# Altium schematic symbol library RC_ControllerV.2.SchLib: 52 symbols (part 2 of 2)
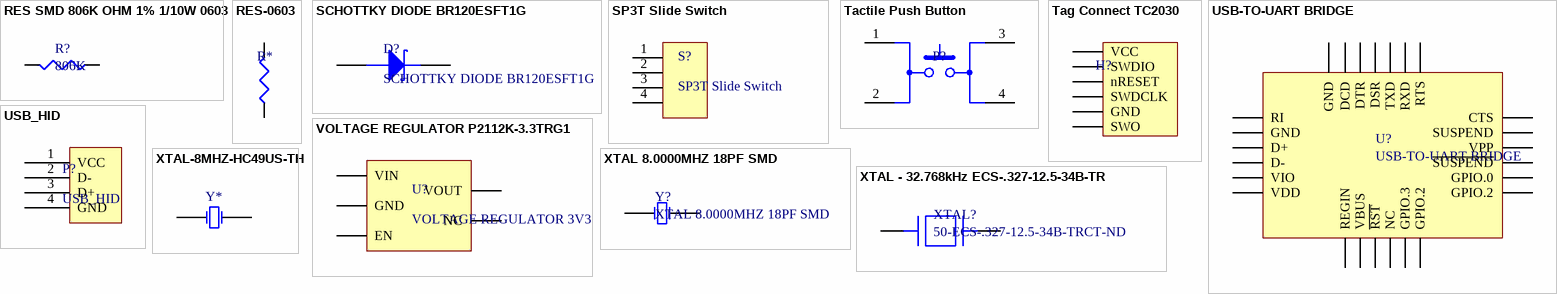
[diagram p2: symbols RES SMD 806K OHM 1% 1/10W 0603 to XTAL-8MHZ-HC49US-TH]

## VOLTAGE REGULATOR P2112K-3.3TRG1
designator U?, comment VOLTAGE REGULATOR 3V3
IC REG LINEAR 3.3V 600MA SOT25; Manufacturer: Diodes Incorporated; Manufacturer Part Number: AP2112K-3.3TRG1; Output Configuration: Positive; Output Type: Fixed; Voltage - Input (Max): 6V; Voltage Dropout (Max): 0.4V @ 600mA; PSRR: 65sB (100Hz ~ 1KHz); Control Features: Enable; Protection Features: Over Current, Over Temperature; Supplier 1: Digi-Key; RoHS: RoHS Compliant; Category: Integrated Circuits (ICs); Stock 1: 185533; Pricing 1: 1=0.48, 10=0.362, 100=0.2255, 500=0.15426, 1000=0.11866 (USD); Packaging: Cut Tape (CT); Part Status: Active; Voltage - Output (Min/Fixed): 3.3V; Voltage - Output (Max): -; Current - Output: 600mA; Operating Temperature: -40°C ~ 85°C; Mounting Type: Surface Mount; Package / Case: SC-74A, SOT-753; Supplier Device Package: SOT-25; ComponentLink1URL: https://www.diodes.com/assets/Datasheets/AP2112.pdf; ComponentLink1Description: https://www.diodes.com/assets/Datasheets/AP2112.pdf; Supplier Part Number 1: AP2112K-3.3TRG1DICT-ND
footprint Regulator_SOT-25
pins: 1 VIN, 2 GND, 3 EN, 4 NC, 5 VOUT

## XTAL 8.0000MHZ 18PF SMD
designator Y?
CRYSTAL 8.0000MHZ 18PF SMD; Manufacturer: Abracon LLC; Manufacturer Part Number: ABLS-8.000MHZ-B4-T; Frequency Stability: ±50ppm; Frequency Tolerance: ±30ppm; Operating Mode: Fundamental; Supplier 1: Digi-Key; RoHS: RoHS Compliant; Category: Crystals, Oscillators, Resonators; Stock 1: 24400; Pricing 1: 1=0.29, 10=0.238, 50=0.2138, 100=0.19, 500=0.1805 (USD); Packaging: Cut Tape (CT); Part Status: Active; Type: MHz Crystal; Load Capacitance: 18pF; Operating Temperature: -20°C ~ 70°C; Ratings: -; Mounting Type: Surface Mount; Package / Case: HC-49/US; Size / Dimension: 0.449" L x 0.185" W (11.40mm x 4.70mm); Height - Seated (Max): 0.165" (4.20mm); ComponentLink1URL: https://abracon.com/Resonators/abls.pdf; ComponentLink1Description: https://abracon.com/Resonators/abls.pdf; Supplier Part Number 1: 535-10212-1-ND
footprint XTAL 8.0000MHZ 18PF SMD
pins: 1 OSC1, 2 OSC2

## XTAL - 32.768kHz ECS-.327-12.5-34B-TR
designator XTAL?, comment 50-ECS-.327-12.5-34B-TRCT-ND
CRYSTAL 32.7680KHZ 12.5PF SMD; Manufacturer: ECS Inc.; Frequency Tolerance: ±20ppm; Operating Mode: Fundamental; Supplier 1: Digi-Key; Manufacturer Part Number: ECS-.327-12.5-34B-TR; RoHS: RoHS Compliant; Category: Crystals, Oscillators, Resonators; Stock 1: 258451; Pricing 1: 1=0.54, 10=0.448, 50=0.4034, 100=0.3586, 500=0.34068, 1000=0.28688 (USD); Packaging: Cut Tape (CT); Part Status: Active; Type: kHz Crystal (Tuning Fork); Frequency Stability: -; Load Capacitance: 12.5pF; Operating Temperature: -40°C ~ 85°C; Ratings: -; Mounting Type: Surface Mount; Package / Case: 2-SMD, No Lead; Size / Dimension: 0.126" L x 0.059" W (3.20mm x 1.50mm); Height - Seated (Max): 0.035" (0.90mm); ComponentLink1URL: http://www.ecsxtal.com/store/pdf/ecx-31b.pdf; ComponentLink1Description: http://www.ecsxtal.com/store/pdf/ecx-31b.pdf; Supplier Part Number 1: 50-ECS-.327-12.5-34B-TRCT-ND
footprint XTAL-32.768kHz
pins: 1, 2

## XTAL-8MHZ-HC49US-TH
designator Y*
footprint XTAL-8MHZ-HC49US-TH
pins: 1 OSC1, 2 OSC2